# EAGLE library part STLQ015XG (library Regulator)
OBSOLETE STLQ015xx - 150 mA, ultra-low quiescent current linear voltage regulator
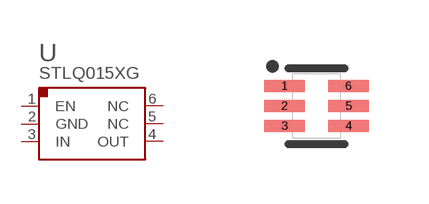
[diagram p5: symbol with the pads of SOT-666; footprint SOT-666]

Designator prefix U

## STLQ015XG12R (VOUT: 1.2v), STLQ015XG15R (VOUT: 1.5v), STLQ015XG18R (PARTNO: 01-100499-00; VOUT: 1.8v), STLQ015XG25R (VOUT: 2.5v), STLQ015XG28R (VOUT: 2.8v), STLQ015XG30R (VOUT: 3.0v), STLQ015XG31R (VOUT: 3.1v), STLQ015XG33R (VOUT: 3.3v)  [SOT-666]
1  EN  in
2  GND  pwr
3  IN  in
4  OUT  out
5  NC  nc
6  NC  nc

## Footprint SOT-666 (pad centres in mm)
SOT-666 Drawn 09/25/13 - C. Nicks
smd 1 x 0.3: 1 -0.8,0.5; 2 -0.8,0; 3 -0.8,-0.5; 4 0.8,-0.5; 5 0.8,0; 6 0.8,0.5